# EAGLE library part LAN8720 (library graftel-internal-ic)
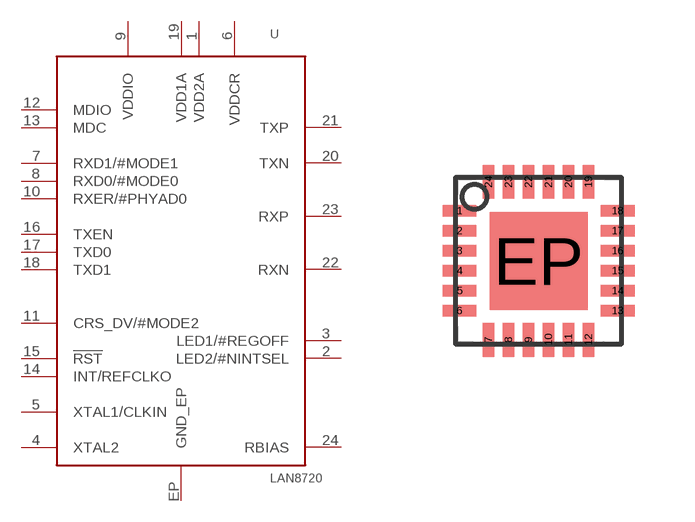
[diagram p37: symbol with the pads of QFN-24; footprint QFN-24]

Designator prefix U

## LAN8720  [QFN-24]
1  VDD2A
2  LED2/#NINTSEL
3  LED1/#REGOFF
4  XTAL2
5  XTAL1/CLKIN
6  VDDCR
7  RXD1/#MODE1
8  RXD0/#MODE0
9  VDDIO
10  RXER/#PHYAD0
11  CRS_DV/#MODE2
12  MDIO
13  MDC
14  INT/REFCLKO
15  !RST
16  TXEN
17  TXD0
18  TXD1
19  VDD1A
20  TXN
21  TXP
22  RXN
23  RXP
24  RBIAS
EP  GND_EP

## Footprint QFN-24 (pad centres in mm)
smd 0.85 x 0.28: 1 -1.975,1.25; 2 -1.975,0.75; 3 -1.975,0.25; 4 -1.975,-0.25; 5 -1.975,-0.75; 6 -1.975,-1.25; 13 1.975,-1.25; 14 1.975,-0.75; 15 1.975,-0.25; 16 1.975,0.25; 17 1.975,0.75; 18 1.975,1.25
smd 0.28 x 0.85: 7 -1.25,-1.975; 8 -0.75,-1.975; 9 -0.25,-1.975; 10 0.25,-1.975; 11 0.75,-1.975; 12 1.25,-1.975; 19 1.25,1.975; 20 0.75,1.975; 21 0.25,1.975; 22 -0.25,1.975; 23 -0.75,1.975; 24 -1.25,1.975
smd 2.45 x 2.45: EP 0,0